# EAGLE library part I2S_PCM_51XX_SOUNDCARD (library PCM5102A)
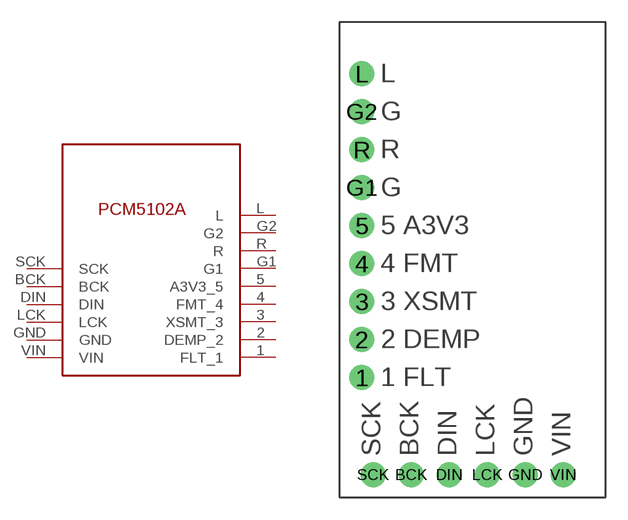
[diagram p0: symbol with the pads of I2S_PCM_5100_SOUNDCARD; footprint I2S_PCM_5100_SOUNDCARD]

Designator prefix -

## I2S_PCM_51XX_SOUNDCARD  [I2S_PCM_5100_SOUNDCARD]
1  FLT_1
2  DEMP_2
3  XSMT_3
4  FMT_4
5  A3V3_5
BCK  BCK
DIN  DIN
G1  G1
G2  G2
GND  GND
L  L
LCK  LCK
R  R
SCK  SCK
VIN  VIN

## Footprint I2S_PCM_5100_SOUNDCARD (pad centres in mm)
drill 1 pad 1.676: 1 1.5,8; 2 1.5,10.54; 3 1.5,13.08; 4 1.5,15.62; 5 1.5,18.16; BCK 4.79,1.5; DIN 7.33,1.5; G1 1.5,20.7; G2 1.5,25.78; GND 12.41,1.5; L 1.5,28.32; LCK 9.87,1.5; R 1.5,23.24; SCK 2.25,1.5; VIN 14.95,1.5